# Altium schematic symbol library UC3856.SchLib: 1 symbol
Pins are listed as number, name and electrical type; pins without a type are passive.

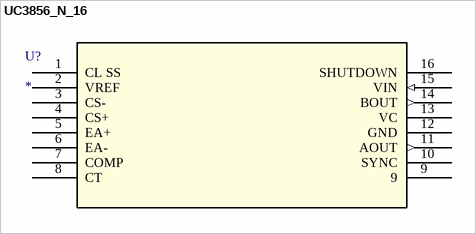
[diagram p0: symbol UC3856_N_16]

## UC3856_N_16
designator U?
Improved Current Mode PWM Controller; Manufacturer: Texas Instruments; GENERIC_PART_NUMBER: UC3856; Manufacturer_Part_Number: uc3856_n_16; INDUSTRY_STD_PKG_TYPE: PDIP; PIN_COUNT: 16; PACKAGE_DESIGNATOR: N; Datasheet URL: http://www.ti.com/lit/gpn/UC3856; FAMILY_NAME: PWM CONTROLLER; Vendor: Texas Instruments; RefDes: RefDes; Type: DEV; Value: Value
footprint N16
pins: 1 CL SS, 2 VREF, 3 CS-, 4 CS+, 5 EA+, 6 EA-, 7 COMP, 8 CT, 9, 10 SYNC, 11 AOUT (out), 12 GND (power), 13 VC, 14 BOUT (out), 15 VIN (in), 16 SHUTDOWN